# Altium schematic symbol library general_electr.SchLib: 22 symbols
Pins are listed as number, name and electrical type; pins without a type are passive.

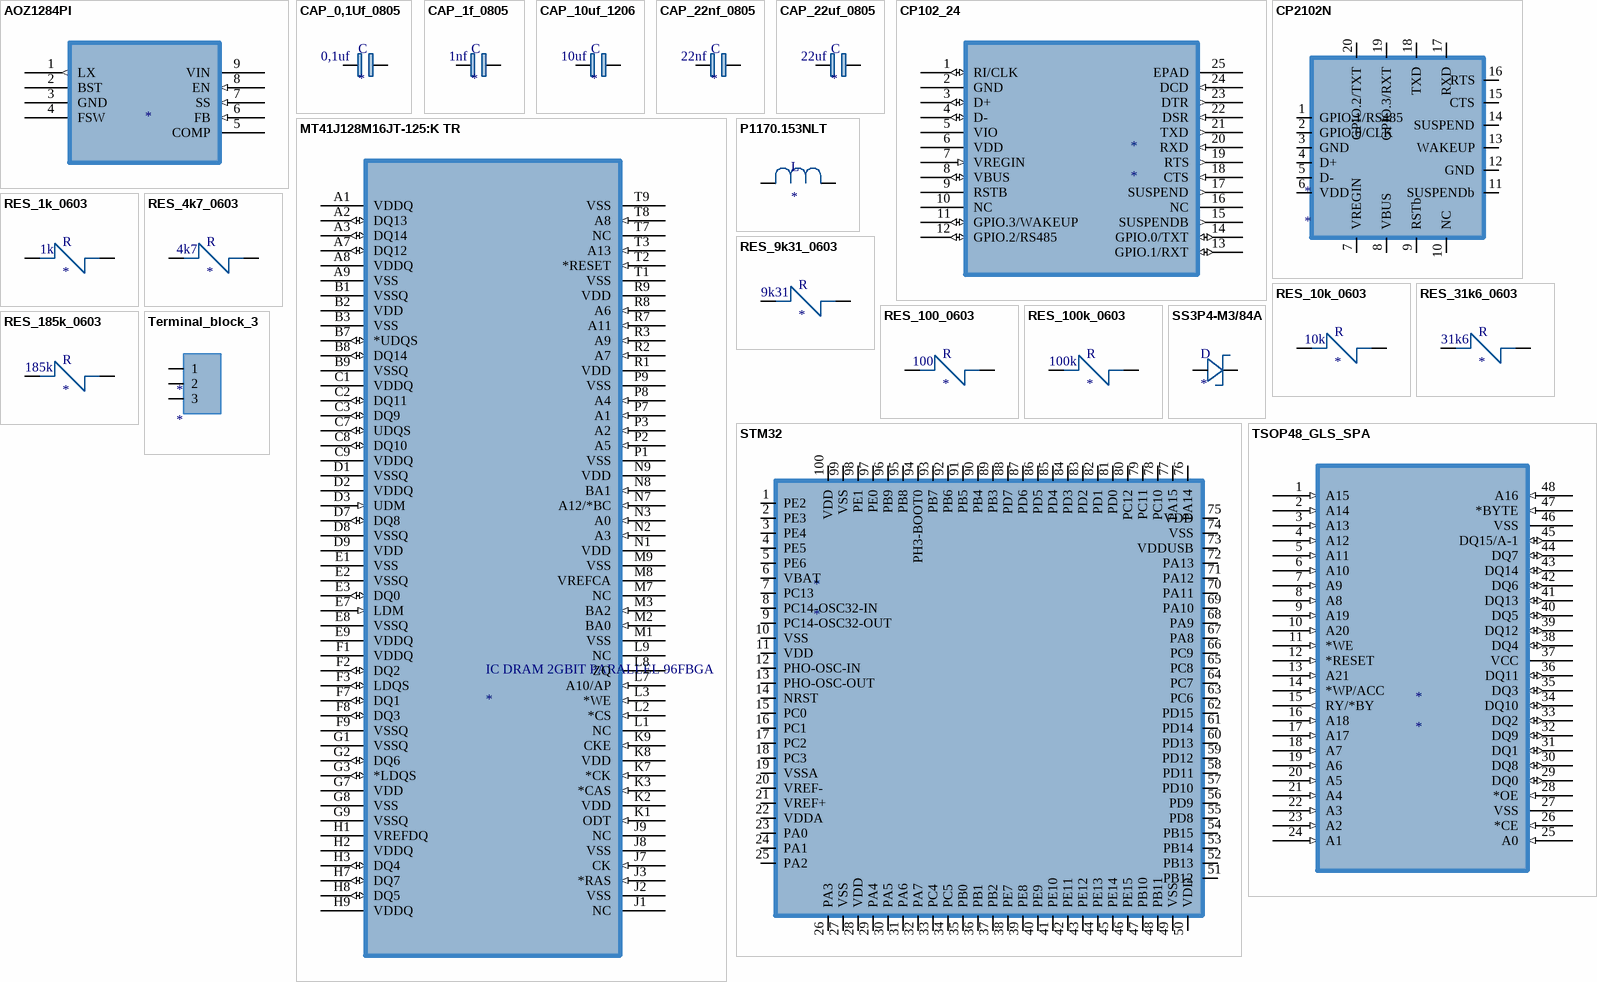
[diagram p0: symbols AOZ1284PI to TSOP48_GLS_SPA]

## AOZ1284PI
designator ?
IC REG BUCK ADJ 4A 8SO; Manufacturer: Alpha and Omega Semiconductor; Manufacturer Part Number: AOZ1284PI; Supplier 1: Digi-key; Supplier Part Number 1: 785-1689-1-ND; ComponentLink1Description: New link; ComponentLink1URL: https://www.digikey.com/en/products/detail/alpha-omega-semiconductor-inc/AOZ1284PI/3973647
footprint AOZ1284PI (IC REG BUCK ADJ 4A 8SO)
pins: 1 LX (out), 2 BST (power), 3 GND (power), 4 FSW, 5 COMP, 6 FB (in), 7 SS (in), 8 EN (in), 9 VIN (power)

## CAP_0,1Uf_0805
designator C  value 0,1uf
CAP CER 0.1UF 25V X7R 0603; Manufacturer: YAGEO; Manufacturer Part Number: CC0603JRX7R8BB104; Supplier: Digi-key; Supplier Part Number 1: 311-1777-1-ND; ComponentLink1Description: New link; ComponentLink1URL: https://www.digikey.com/en/products/detail/yageo/CC0603JRX7R8BB104/5195186
footprint CAP_0805
pins: 1, 2

## CAP_1f_0805
designator C  value 1nf
CAP0805 COG 1000PF 1% 50V; Manufacturer: Cal-Chip Electronics, Inc.; Manufacturer Part Number: GMC21CG102F50NT; Supplier: Digi-key; Supplier Part Number 1: 4713-GMC21CG102F50NTCT-ND; ComponentLink1Description: New link; ComponentLink1URL: https://www.digikey.com/en/products/detail/cal-chip-electronics-inc/GMC21CG102F50NT/19910705
footprint CAP_0805
pins: 1, 2

## CAP_10uf_1206
designator C  value 10uf
CAP CER 10UF 25V X7R 0603; Manufacturer: YAGEO; Manufacturer Part Number: CC1206KRX7R8BB104; Supplier: Digi-key; Supplier Part Number 1: 311-3564-1-ND; ComponentLink1Description: New link; ComponentLink1URL: https://www.digikey.com/en/products/detail/yageo/CC1206KRX7R8BB104/5884627
footprint CAP_0805
pins: 1, 2

## CAP_22nf_0805
designator C  value 22nf
CAP CER 2200PF 10V X7R 0805; Manufacturer: Würth Elektronik; Manufacturer Part Number: 885012207009; Supplier: Digi-key; Supplier Part Number 1: 732-8019-1-ND; ComponentLink1Description: New link; ComponentLink1URL: https://www.digikey.com/en/products/detail/w%C3%BCrth-elektronik/885012207009/5453874
footprint CAP_0805
pins: 1, 2

## CAP_22uf_0805
designator C  value 22uf
CAP0805 X5R 22UF 20% 16V; Manufacturer: Cal-Chip Electronics, Inc.; Manufacturer Part Number: GMC21X5R226M16NT; Supplier: Digi-key; Supplier Part Number 1: 4713-GMC21X5R226M16NTCT-ND; ComponentLink1Description: New link; ComponentLink1URL: https://www.digikey.com/en/products/detail/w%C3%BCrth-elektronik/885012207009/5453874
footprint CAP_0805
pins: 1, 2

## CP102_24
designator *
IC USB TO UART BRIDGE QFN24; Manufacturer: Silicon Labs; Manufacturer Part Number: CP2102N-A02-GQFN24; Supplier: Digi-key; Supplier Part Number: 336-5887-ND; ComponentLink1Description: New link; ComponentLink1URL: https://www.digikey.com/en/products/detail/silicon-labs/CP2102N-A02-GQFN24/9863476
footprint QFN24_CP2102N_SIL-M
pins: 1 RI/CLK (io), 2 GND (power), 3 D+ (io), 4 D- (io), 5 VIO (power), 6 VDD (power), 7 VREGIN (in), 8 VBUS (io), 9 RSTB, 10 NC, 11 GPIO.3/WAKEUP (io), 12 GPIO.2/RS485 (io), 13 GPIO.1/RXT (io), 14 GPIO.0/TXT (io), 15 SUSPENDB (out), 16 NC, 17 SUSPEND (out), 18 CTS (in), 19 RTS (out), 20 RXD (in), 21 TXD (out), 22 DSR (in), 23 DTR (out), 24 DCD (in), 25 EPAD (power)

## CP2102N
designator *
IC USB TO UART BRIDGE QFN20; Manufacturer: Silicon Labs; Manufacturer Product Number: CP2102N-A02-GQFN20R; Supplier Part Number: 336-5886-1-ND; Supplier: Digi-key; ComponentLink1Description: New link; ComponentLink1URL: https://www.digikey.com/en/products/detail/silicon-labs/CP2102N-A02-GQFN20R/9863478
footprint CP2102N (CP2102N-A02-GQFN20R)
pins: 1 GPIO.1/RS485, 2 GPIO.0/CLK, 3 GND, 4 D+, 5 D-, 6 VDD, 7 VREGIN, 8 VBUS, 9 RSTb, 10 NC, 11 SUSPENDb, 12 GND, 13 WAKEUP, 14 SUSPEND, 15 CTS, 16 RTS, 17 RXD, 18 TXD, 19 GPIO.3/RXT, 20 GPIO.2/TXT

## MT41J128M16JT-125:K TR
designator IC DRAM 2GBIT PARALLEL 96FBGA
IC DRAM 2GBIT PARALLEL 96FBGA; Manufacturer: Micron Technology Inc.; Manufacturer Product Number: MT41J128M16JT-125:K TR; Supplier Part Number: 557-1611-1-ND; Supplier: Digi-key; ComponentLink1Description: Digikey; ComponentLink1URL: https://www.digikey.com/en/products/detail/micron-technology-inc/MT41J128M16JT-125-K-TR/3924857
footprint FBGA96_8X14_MRN
pins: A1 VDDQ (power), A2 DQ13 (io), A3 DQ14 (io), A7 DQ12 (io), A8 VDDQ (power), A9 VSS (power), B1 VSSQ (power), B2 VDD (power), B3 VSS (power), B7 *UDQS (io), B8 DQ14 (io), B9 VSSQ (power), C1 VDDQ (power), C2 DQ11 (io), C3 DQ9 (io), C7 UDQS (io), C8 DQ10 (io), C9 VDDQ (power), D1 VSSQ (power), D2 VDDQ (power), D3 UDM (in), D7 DQ8 (io), D8 VSSQ (power), D9 VDD (power), E1 VSS (power), E2 VSSQ (power), E3 DQ0 (io), E7 LDM (in), E8 VSSQ (power), E9 VDDQ (power), F1 VDDQ (power), F2 DQ2 (io), F3 LDQS (io), F7 DQ1 (io), F8 DQ3 (io), F9 VSSQ (power), G1 VSSQ (power), G2 DQ6 (io), G3 *LDQS (io), G7 VDD (power), G8 VSS (power), G9 VSSQ (power), H1 VREFDQ (power), H2 VDDQ (power), H3 DQ4 (io), H7 DQ7 (io), H8 DQ5 (io), H9 VDDQ (power), J1 NC, J2 VSS (power), J3 *RAS (in), J7 CK (in), J8 VSS (power), J9 NC, K1 ODT (in), K2 VDD (power), K3 *CAS (in), K7 *CK (in), K8 VDD (power), K9 CKE (in), L1 NC, L2 *CS (in), L3 *WE (in), L7 A10/AP (in), L8 ZQ, L9 NC, M1 VSS (power), M2 BA0 (in), M3 BA2 (in), M7 NC, M8 VREFCA (power), M9 VSS (power), N1 VDD (power), N2 A3 (in), N3 A0 (in), N7 A12/*BC (in), N8 BA1 (in), N9 VDD (power), P1 VSS (power), P2 A5 (in), P3 A2 (in), P7 A1 (in), P8 A4 (in), P9 VSS (power), R1 VDD (power), R2 A7 (in), R3 A9 (in), R7 A11 (in), R8 A6 (in), R9 VDD (power), T1 VSS (power), T2 *RESET (in), T3 A13 (in), T7 NC, T8 A8 (in), T9 VSS (power)

## P1170.153NLT
designator L
FIXED IND 15UH 4A 30 MOHM SMD; Manufacturer: Pulse Electronics; Manufacturer Part Number: P1170.153NLT; Supplier 1: Digi-key; Supplier Part Number 1: 553-1962-1-ND; ComponentLink1Description: New link; ComponentLink1URL: https://www.digikey.com/en/products/detail/pulse-electronics/P1170-153NLT/2266821
footprint P1170.153NLT (FIXED IND 15UH 4A 30 MOHM SMD)
pins: 1, 2

## RES_1k_0603
designator R  value 1k
RES 1K OHM 1% 1/10W 0603; Manufacturer: YAGEO; Manufacturer Part Number: RC0603FR-071KL; Supplier: Digi-key; Supplier Part Number 1: 311-1.00KHRCT-ND - Cut Tape (CT); ComponentLink1Description: New link; ComponentLink1URL: *https://www.digikey.com/en/products/detail/yageo/RC0603FR-071KL/726843
footprint Res_0603
pins: 1, 2

## RES_4k7_0603
designator R  value 4k7
RES 4.7K OHM 1% 1/10W 0603; Manufacturer: YAGEO; Manufacturer Part Number: RC0603FR-074K7L; Supplier 1: Digi-key; Supplier Part Number 1: 311-4.70KHRTR-ND; ComponentLink1Description: New link; ComponentLink1URL: https://www.digikey.com/en/products/detail/yageo/RC0603FR-074K7L/727212
footprint Res_0603
pins: 1, 2

## RES_9k31_0603
designator R  value 9k31
RES 9.31K OHM 1% 1/10W 0603; Manufacturer: YAGEO; Manufacturer Part Number: RC0603FR-079K31L; Supplier 1: Digi-key; Supplier Part Number 1: 311-9.31KHRCT-ND; ComponentLink1Description: New link; ComponentLink1URL: https://www.digikey.com/en/products/detail/yageo/RC0603FR-079K31L/727420
footprint Res_0603
pins: 1, 2

## RES_10k_0603
designator R  value 10k
RES 10K OHM 1% 1/10W 0603; Manufacturer: YAGEO; Manufacturer Part Number: RC0603FR-0710KL; Supplier 1: Digi-key; Supplier Part Number 1: 311-10.0KHRCT-ND; ComponentLink1Description: New link; ComponentLink1URL: https://www.digikey.com/en/products/detail/yageo/RC0603FR-0710KL/726880
footprint Res_0603
pins: 1, 2

## RES_31k6_0603
designator R  value 31k6
RES 31.6K OHM 1% 1/10W 0603; Manufacturer: Stackpole Electronics Inc; Manufacturer Part Number: RMCF0603FT31K6; Supplier 1: Digi-Key; Supplier Part Number 1: RMCF0603FT31K6CT-ND; ComponentLink1Description: New link; ComponentLink1URL: https://www.digikey.com/en/products/detail/stackpole-electronics-inc/RMCF0603FT31K6/1760794
footprint Res_0603
pins: 1, 2

## RES_100_0603
designator R  value 100
RES 0.1 OHM 1% 1/5W 0603; Manufacturer: YAGEO; Manufacturer Part Number: PT0603FR-7W0R1L; Supplier 1: Digi-key; Supplier Part Number 1: 311-0.1ALCT-ND; ComponentLink1Description: New link; ComponentLink1URL: http://digikey.com/en/products/detail/yageo/PT0603FR-7W0R1L/2178332
footprint Res_0603
pins: 1, 2

## RES_100k_0603
designator R  value 100k
RES 100K OHM 1% 1/10W 0603; Manufacturer: YAGEO; Manufacturer Part Number: RC0603FR-07100KL; Supplier 1: Digi-key; Supplier Part Number 1: 311-100KHRCT-ND; ComponentLink1Description: New link; ComponentLink1URL: https://www.digikey.com/en/products/detail/yageo/RC0603FR-07100KL/726889
footprint Res_0603
pins: 1, 2

## RES_185k_0603
designator R  value 185k
RES 184K OHM 0.5% 1/10W 0603; Manufacturer: YAGEO; Manufacturer Part Number: RT0603DRE07184KL; Supplier: Digi-key; Supplier Part Number 1: 13-RT0603DRE07184KLCT-ND; ComponentLink1Description: New link; ComponentLink1URL: https://www.digikey.com/en/products/detail/yageo/RT0603DRE07184KL/7708406
footprint Res_0603
pins: 1, 2

## SS3P4-M3/84A
designator D
DIODE SCHOTTKY 40V 3A DO220AA; Manufacturer: Vishay General Semiconductor - Diodes Division; Manufacturer Part Number: SS3P4-M3/84A; Supplier: Digi-key; Supplier Part Number 1: SS3P4-M3/84AGICT-ND; ComponentLink1Description: New link; ComponentLink1URL: https://www.digikey.com/en/products/detail/vishay-general-semiconductor-diodes-division/SS3P4-M3-84A/1147819
footprint SS3P4-M3/84A (DIODE SCHOTTKY 40V 3A DO220AA)
pins: 1, 2

## STM32
designator *
IC MCU 32BIT 256KB FLASH 100LQFP; Manufacturer: STMicroelectronics; Manufacturer Product Number: STM32L433VCT6TR; Supplier: Digi-key; Supplier Part Number: 497-19378-1-ND; ComponentLink1Description: New link; ComponentLink1URL: https://www.digikey.com/en/products/detail/stmicroelectronics/STM32L433VCT6TR/6621832
footprint STM32
pins: 1 PE2, 2 PE3, 3 PE4, 4 PE5, 5 PE6, 6 VBAT, 7 PC13, 8 PC14-OSC32-IN, 9 PC14-OSC32-OUT, 10 VSS, 11 VDD, 12 PHO-OSC-IN, 13 PHO-OSC-OUT, 14 NRST, 15 PC0, 16 PC1, 17 PC2, 18 PC3, 19 VSSA, 20 VREF-, 21 VREF+, 22 VDDA, 23 PA0, 24 PA1, 25 PA2, 26 PA3, 27 VSS, 28 VDD, 29 PA4, 30 PA5, 31 PA6, 32 PA7, 33 PC4, 34 PC5, 35 PB0, 36 PB1, 37 PB2, 38 PE7, 39 PE8, 40 PE9, 41 PE10, 42 PE11, 43 PE12, 44 PE13, 45 PE14, 46 PE15, 47 PB10, 48 PB11, 49 VSS, 50 VDD, 51 PB12, 52 PB13, 53 PB14, 54 PB15, 55 PD8, 56 PD9, 57 PD10, 58 PD11, 59 PD12, 60 PD13, 61 PD14, 62 PD15, 63 PC6, 64 PC7, 65 PC8, 66 PC9, 67 PA8, 68 PA9, 69 PA10, 70 PA11, 71 PA12, 72 PA13, 73 VDDUSB, 74 VSS, 75 VDD, 76 PA14, 77 PA15, 78 PC10, 79 PC11, 80 PC12, 81 PD0, 82 PD1, 83 PD2, 84 PD3, 85 PD4, 86 PD5, 87 PD6, 88 PD7, 89 PB3, 90 PB4, 91 PB5, 92 PB6, 93 PB7, 94 PH3-BOOT0, 95 PB8, 96 PB9, 97 PE0, 98 PE1, 99 VSS, 100 VDD

## Terminal_block_3
designator *
TERM BLK 3P SIDE ENT 5.08MM PCB; Manufacturer: Phoenix Contact; Manufacturer Product Number: 1729131; Supplier: Digi-key; Supplier Part Number: 277-1248-ND; ComponentLink1Description: New link; ComponentLink1URL: https://www.digikey.com/en/products/detail/phoenix-contact/1729131/260616
footprint Terminal_block_3 (CONN HEADER VERT 3POS 5.08MM)
pins: 1, 2, 3

## TSOP48_GLS_SPA
designator *
https://www.digikey.com/en/products/detail/infineon-technologies/S29GL064S70TFI040/4833818; Manufacturer: Infineon Technologies; Supplier Part Number: 448-S29GL064S70TFI040-ND; Manufacturer Product Number: S29GL064S70TFI040; Supplier: Digi-key; ComponentLink1Description: Digikey; ComponentLink1URL: https://www.digikey.com/en/products/detail/infineon-technologies/S29GL064S70TFI040/4833818
footprint TSOP48_GLS_SPA
pins: 1 A15 (in), 2 A14 (in), 3 A13 (in), 4 A12 (in), 5 A11 (in), 6 A10 (in), 7 A9 (in), 8 A8 (in), 9 A19 (in), 10 A20 (in), 11 *WE (in), 12 *RESET (in), 13 A21 (in), 14 *WP/ACC (in), 15 RY/*BY (out), 16 A18 (in), 17 A17 (in), 18 A7 (in), 19 A6 (in), 20 A5 (in), 21 A4 (in), 22 A3 (in), 23 A2 (in), 24 A1 (in), 25 A0 (in), 26 *CE (in), 27 VSS (power), 28 *OE (in), 29 DQ0 (io), 30 DQ8 (io), 31 DQ1 (io), 32 DQ9 (io), 33 DQ2 (io), 34 DQ10 (io), 35 DQ3 (io), 36 DQ11 (io), 37 VCC (power), 38 DQ4 (io), 39 DQ12 (io), 40 DQ5 (io), 41 DQ13 (io), 42 DQ6 (io), 43 DQ14 (io), 44 DQ7 (io), 45 DQ15/A-1 (io), 46 VSS (power), 47 *BYTE (in), 48 A16 (in)